# Altium footprint library CT3151-2.PcbLib: 1 footprints
Each footprint in its own frame and in the unit in brackets; x right, y up, seen from the top. Pads: shape width x height; smd on the part's side, far side on the other; paste and mask are expansions set on the pad; w line width, h text height; cw(c..) or ccw(c..) is an arc to the next point about the centre after c.
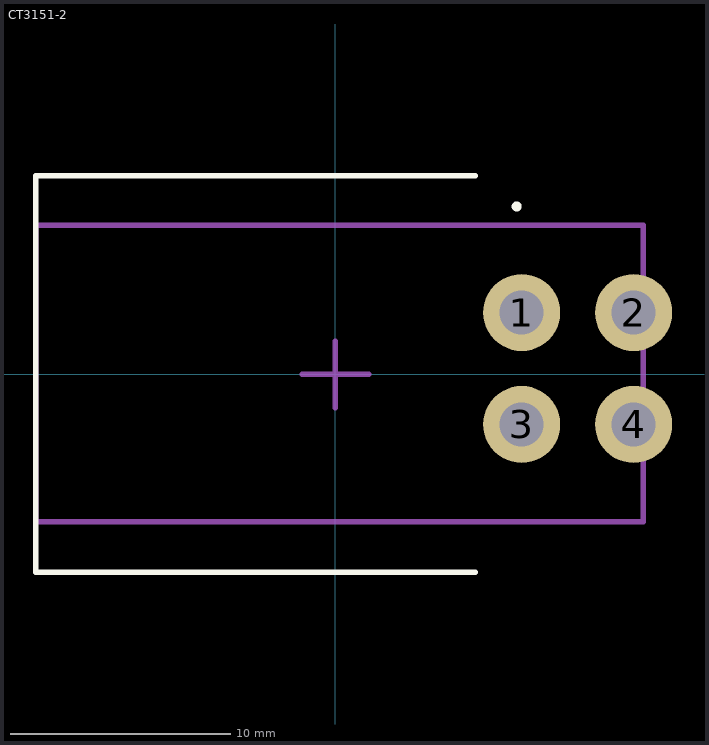
[diagram p0: the footprint, top view; thin cyan lines are the x and y axes]

## CT3151-2 [mm]
pads (4):
  round 3.5 hole 2: 1(8.451,2.811) 2(13.531,2.811) 3(8.451,-2.269) 4(13.531,-2.269)
Top Overlay:
  circle w0.254: c8.225,7.625 r0.1
  lines w0.25: 6.341,-8.979 -13.6,-8.979 -13.6,9.021 6.341,9.021
Mechanical 13:
  lines w0.25: -13.6,-6.679 -13.6,6.771 13.975,6.771 13.975,-6.679 -13.6,-6.679
Mechanical 15:
  lines w0.25: -1.5,0 0,0 ; 0,-1.5 0,0 ; 0,1.5 0,0 ; 1.5,0 0,0
3D body "CT3151-2.STEP": height 19.75, standoff -2.65, extent -13.65,-6.725 14.05,6.775